# Altium schematic symbol library Own.SchLib: 2 symbols
Pins are listed as number, name and electrical type; pins without a type are passive.

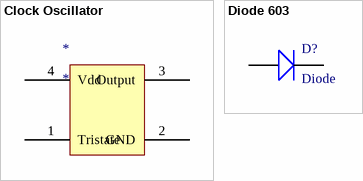
[diagram p0: symbols Clock Oscillator to Diode 603]

## Clock Oscillator
designator *
1.8MHz Clock Source SMD
footprint Oscillator SMD (5x7mm 1.8MHz Crystal)
pins: 1 Tristate, 2 GND, 3 Output, 4 Vdd

## Diode 603
designator D?, comment Diode
Simple 0603 diode
pins: 0, 1